# Altium footprint library SOT-323.PcbLib: 1 footprints
Each footprint in its own frame and in the unit in brackets; x right, y up, seen from the top. Pads: shape width x height; smd on the part's side, far side on the other; paste and mask are expansions set on the pad; w line width, h text height; cw(c..) or ccw(c..) is an arc to the next point about the centre after c.
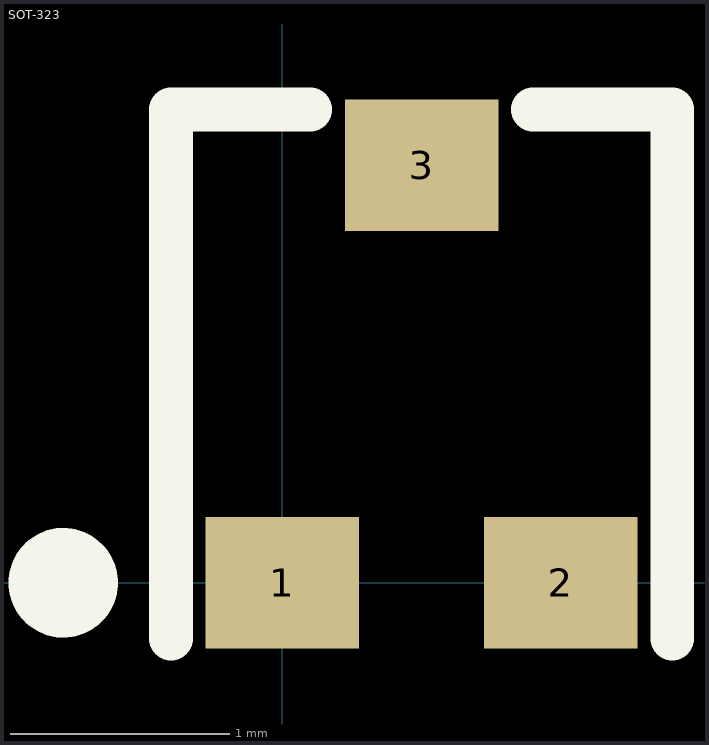
[diagram p0: the footprint, top view; thin cyan lines are the x and y axes]

## SOT-323 [mm]
pads (3):
  rect 0.7x0.6 smd: 1(0,0) 2(1.27,0) 3(0.635,1.905)
Top Overlay:
  circle w0.25: c-1,0 r0.125
  lines w0.2: -0.508,-0.254 -0.508,2.159 0.127,2.159 ; 1.143,2.159 1.778,2.159 1.778,-0.254